# Altium schematic symbol library MC33063ADR2G.Schlib: 1 symbol
Pins are listed as number, name and electrical type; pins without a type are passive.

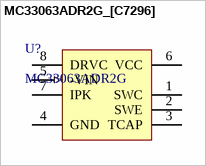
[diagram p0: symbol MC33063ADR2G_[C7296]]

## MC33063ADR2G_[C7296]
designator U?, comment MC33063ADR2G
开关电源
footprint SOIC-8_150mil
pins: 1 SWC (oc), 2 SWE (oe), 3 TCAP, 4 GND (power), 5 -VIN (in), 6 VCC (power), 7 IPK, 8 DRVC (oc)